# EAGLE library part EA_DOGM204-A (library ea_v66)
ELECTRONIC ASSEMBLY GmbH EA DOGM204B-A EA DOGM204N-A EA DOGM204S-A EA DOGM204W-A Suitable backlight: EA LED66x40-xxx
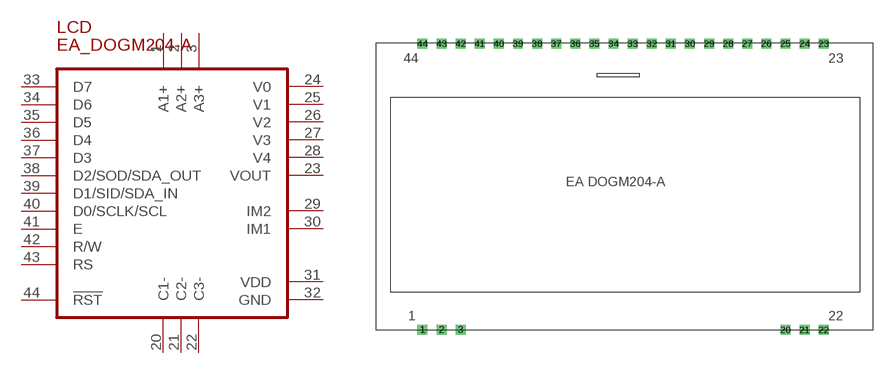
[diagram p21: symbol with the pads of EA_DOGM204-A; footprint EA_DOGM204-A]

Designator prefix LCD

## EA_DOGM204-A  [EA_DOGM204-A]
1  A1+  pas
2  A2+  pas
3  A3+  pas
20  C1-  pas
21  C2-  pas
22  C3-  pas
23  VOUT  pas
24  V0  pas
25  V1  pas
26  V2  pas
27  V3  pas
28  V4  pas
29  IM2  in
30  IM1  in
31  VDD  pwr
32  GND  pwr
33  D7
34  D6
35  D5
36  D4
37  D3
38  D2/SOD/SDA_OUT
39  D1/SID/SDA_IN
40  D0/SCLK/SCL
41  E  in
42  R/W  in
43  RS  in
44  !RST!  in

## Footprint EA_DOGM204-A (pad centres in mm)
drill 0.813 square: 1 0,0; 2 2.54,0; 3 5.08,0; 20 48.26,0; 21 50.8,0; 22 53.34,0; 23 53.34,38.1; 24 50.8,38.1; 25 48.26,38.1; 26 45.72,38.1; 27 43.18,38.1; 28 40.64,38.1; 29 38.1,38.1; 30 35.56,38.1; 31 33.02,38.1; 32 30.48,38.1; 33 27.94,38.1; 34 25.4,38.1; 35 22.86,38.1; 36 20.32,38.1; 37 17.78,38.1; 38 15.24,38.1; 39 12.7,38.1; 40 10.16,38.1; 41 7.62,38.1; 42 5.08,38.1; 43 2.54,38.1; 44 0,38.1